# EAGLE library part MN3207 (library sonic-detours)
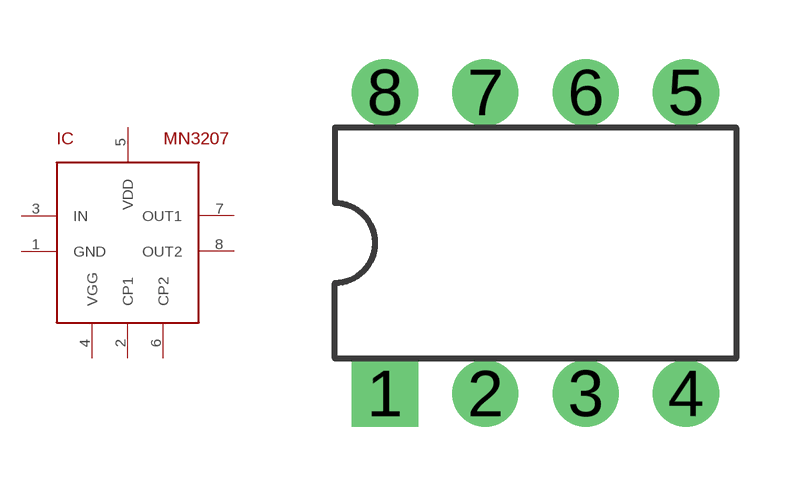
[diagram p6: symbol with the pads of DIL08; footprint DIL08]

Designator prefix IC

## MN3207  [DIL08]
1  GND
2  CP1
3  IN
4  VGG
5  VDD
6  CP2
7  OUT1
8  OUT2

## Footprint DIL08 (pad centres in mm)
Dual In Line Package
drill 0.813 pad 1.676 square: 1 -3.81,-3.81
drill 0.813 pad 1.676: 2 -1.27,-3.81; 3 1.27,-3.81; 4 3.81,-3.81; 5 3.81,3.81; 6 1.27,3.81; 7 -1.27,3.81; 8 -3.81,3.81